# EAGLE library part DEC8271 (library dec-con)
Parallel Load Shift Register
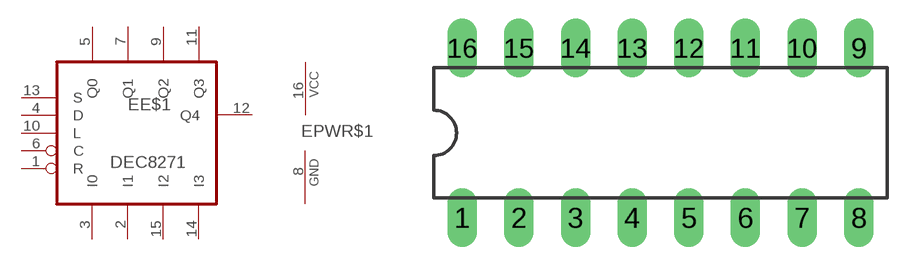
[diagram p32: symbol with the pads of DIL16; footprint DIL16]

Designator prefix E; gates E$1=8271 PWR$1=PWRN

## DEC8271  [DIL16]
1  E$1:R  in
2  E$1:I1  in
3  E$1:I0  in
4  E$1:D  in
5  E$1:Q0  out
6  E$1:C  in
7  E$1:Q1  out
8  PWR$1:GND  pwr
9  E$1:Q2  out
10  E$1:L  in
11  E$1:Q3  out
12  E$1:Q4  out
13  E$1:S  in
14  E$1:I3  in
15  E$1:I2  in
16  PWR$1:VCC  pwr

## Footprint DIL16 (pad centres in mm)
Dual In Line Package
drill 0.813 long: 1 -8.89,-3.81; 2 -6.35,-3.81; 3 -3.81,-3.81; 4 -1.27,-3.81; 5 1.27,-3.81; 6 3.81,-3.81; 7 6.35,-3.81; 8 8.89,-3.81; 9 8.89,3.81; 10 6.35,3.81; 11 3.81,3.81; 12 1.27,3.81; 13 -1.27,3.81; 14 -3.81,3.81; 15 -6.35,3.81; 16 -8.89,3.81